# Altium schematic symbol library S100 Memory Dumper SCHLIB.SchLib: 5 symbols
Pins are listed as number, name and electrical type; pins without a type are passive.

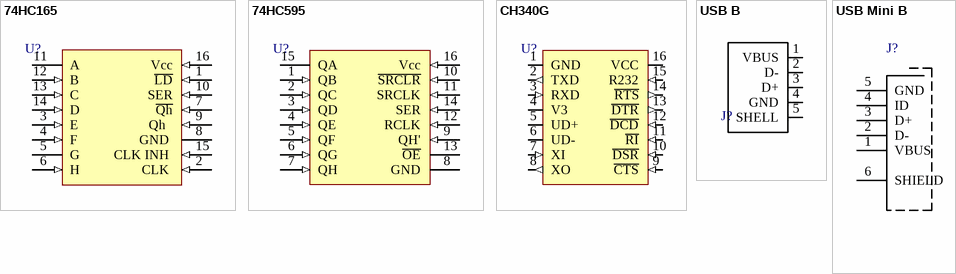
[diagram p0: symbols 74HC165 to USB Mini B]

## 74HC165
designator U?
footprint SOIC-175-16 (SOIC, 16-Leads, Body 9.90x3.90mm, Pitch 1.27mm, IPC Low Density)
pins: 1 ~{LD} (in), 2 CLK  (in), 3 E  (in), 4 F  (in), 5 G , 6 H  (in), 7 ~{Qh} (in), 8 GND , 9 Qh   (in), 10 SER (in), 11 A, 12 B  (in), 13 C  (in), 14 D  (in), 15 CLK INH  (in), 16 Vcc (in)

## 74HC595
designator U?
footprint SOIC-175-16 (SOIC, 16-Leads, Body 9.90x3.90mm, Pitch 1.27mm, IPC Low Density)
pins: 1 QB (in), 2 QC (in), 3 QD (in), 4 QE (in), 5 QF (in), 6 QG (in), 7 QH (in), 8 GND, 9 QH' (in), 10 ~{SRCLR} (in), 11 SRCLK (in), 12 RCLK (in), 13 ~{OE}, 14 SER (in), 15 QA, 16 Vcc (in)

## CH340G
designator U?
footprint SOIC-175-16 (SOIC, 16-Leads, Body 9.90x3.90mm, Pitch 1.27mm, IPC Low Density)
pins: 1 GND (power), 2 TXD (out), 3 RXD (in), 4 V3 (power), 5 UD+ (io), 6 UD- (io), 7 XI (in), 8 XO (out), 9 ~{CTS} (in), 10 ~{DSR} (in), 11 ~{RI} (in), 12 ~{DCD} (in), 13 ~{DTR} (out), 14 ~{RTS} (out), 15 R232 (in), 16 VCC (power)

## USB B
designator J?
footprint USB B V
pins: 1 VBUS, 2 D-, 3 D+, 4 GND, 5 SHELL

## USB Mini B
designator J?
MINI USB A - 5POS Horizontal through hole; MF: Wurth Electronics; MP: 651005136521; Package: None; Price: 1.78 USD; Availability: Good; SnapEDA_Link: https://www.snapeda.com/symbols-footprints/651005136521/Wurth%20Electronics%20Inc/view-part/?ref=snap; Value: *
footprint USB Mini B
pins: 1 VBUS, 2 D-, 3 D+, 4 ID, 5 GND, 6 SHIELD